# Altium schematic symbol library CONN_Sealed.SchLib: 1 symbol
Pins are listed as number, name and electrical type; pins without a type are passive.

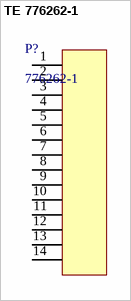
[diagram p0: symbol TE 776262-1]

## TE 776262-1
designator P?, comment 776262-1
TE Ampseal 776262-1; Name: 776262-1; Manufacturer: TE; Series: Ampseal
footprint ENG_CD_776262_A8 (14 POS AMPSEAL VERTICAL HEADER)
pins: 1, 2, 3, 4, 5, 6, 7, 8, 9, 10, 11, 12, 13, 14